# EAGLE library part MB85RS64V (library MB85RS64V (1))
Check availability <https://pricing.snapeda.com/parts/MB85RS64V/Fujitsu/view-part?ref=eda>
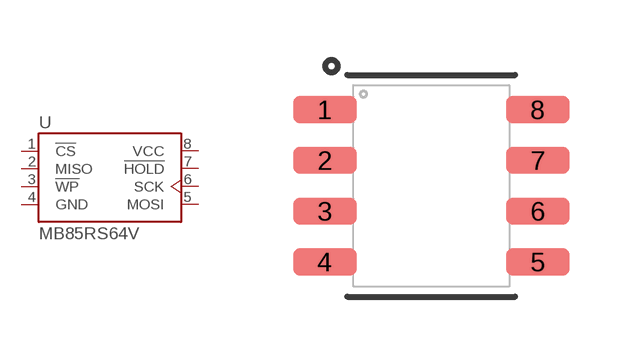
[diagram p0: symbol with the pads of SOIC127P600X155-8_R159_68_374R15; footprint SOIC127P600X155-8_R159_68_374R15]

Designator prefix U

## MB85RS64V (Availability: Not in stock; Check_prices: https://www.snapeda.com/parts/MB85RS64V/Fujitsu/view-part/?ref=eda; Description: FRAM (Ferroelectric RAM) Memory IC 64Kb (8K x 8) SPI 20 MHz 8-SOP; MF: Fujitsu; MP: MB85RS64V; Package: None; Price: None; SnapEDA_Link: https://www.snapeda.com/parts/MB85RS64V/Fujitsu/view-part/?ref=snap)  [SOIC127P600X155-8_R159_68_374R15]
1  !CS  in
2  MISO  out
3  !WP  in
4  GND  pwr
5  MOSI  in
6  SCK  in
7  !HOLD  in
8  VCC  pwr

## Footprint SOIC127P600X155-8_R159_68_374R15 (pad centres in mm)
smd 1.59 x 0.68: 1 -2.665,1.905; 2 -2.665,0.635; 3 -2.665,-0.635; 4 -2.665,-1.905; 5 2.665,-1.905; 6 2.665,-0.635; 7 2.665,0.635; 8 2.665,1.905